# Altium integrated library TI Data Converters Analog to Digital Converter.IntLib: 2197 symbols (part 82 of 168)
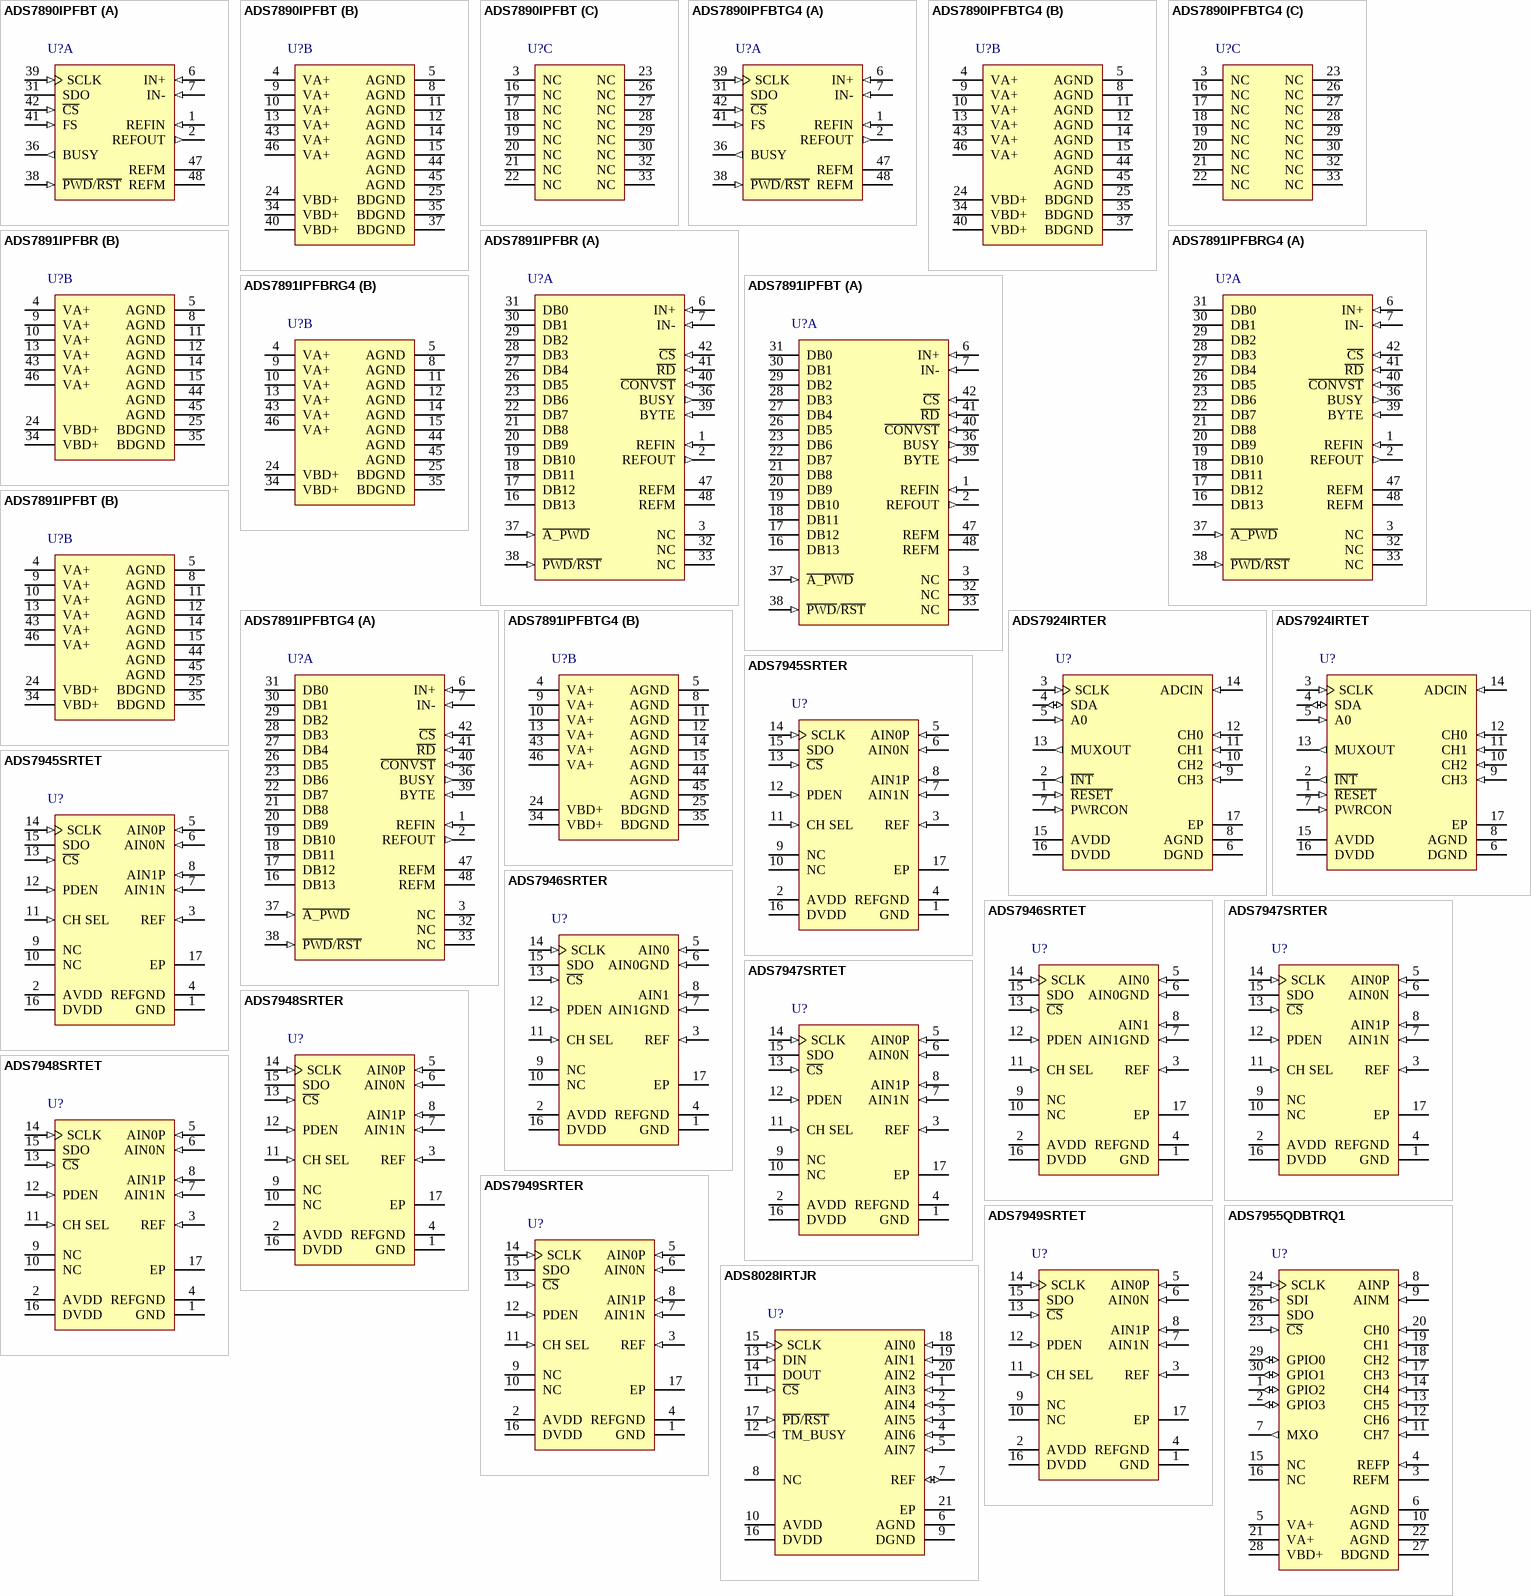
[diagram p207: symbols ADS7890IPFBT to ADS8028IRTJR]

## ADS7948SRTET
designator U?
10-Bit, 2 MSPS, Dual Channel, Pseudo-Differential uPower Serial SAR ADC, -40 to 125 degC, 16-pin QFN (RTE16), Green (RoHS & no Sb/Br); Manufacturer: Texas Instruments; PartNumber: ADS7948SRTET; # Input Channels: 2; Analog Voltage AV/DD(Max)(V): 5.5; Analog Voltage AV/DD(Min)(V): 2.7; Digital Supply(Min)(V): 1.65; INL(Max)(+/-LSB): 0.5; Resolution(Bits): 10; Sample Rate (max)(SPS): 2M; SFDR(dB): 81; SINAD(dB): 61; SubFamily: Precision ADC (<=10MSPS); DatasheetVersion: SLAS708; PackageVersion: 4205254/D, 01/2011; PackageReference: RTE16-1700X1700TP; PackageDescription: 16-Pin Plastic Flat Pack, Body 3 x 3 mm, Pitch 0.5 mm; Supplier 1: Digi-Key; Supplier Part Number 1: ADS7844NG4-ND; Supplier 2: Newark; Supplier Part Number 2: 80K1175; Supplier 3: Mouser; Supplier Part Number 3: 595-ADS7844NG4; Architecture: SAR; Digital Supply(Max)(V): 5.5; Eco-Plan: Green (RoHS & no Sb/Br); Mounting Technology: Surface Mount; Code_JEDEC: MO-220; ComponentLink1Description: Manufacturer URL; ComponentLink1URL: http://www.ti.com/; ComponentLink2Description: Datasheet; ComponentLink2URL: http://www.ti.com/general/docs/lit/getliterature.tsp?genericPartNumber=ADS7948&fileType=pdf; ComponentLink3Description: Package Specification; ComponentLink3URL: http://www.ti.com/litv/pdf/mpqf149c
footprint TI-RTE16-1700X1700TP_V (QFN, 16-Leads, Body 3x3mm, Pitch 0.5mm, Thermal Pad 1.7x1.7mm)
pins: 1 GND (power) "Power supply ground; all analog and digital signals are referred with respect to this pin", 2 AVDD (power) "ADC power supply", 3 REF (in) "ADC positive reference input; decouple this pin with REFGND", 4 REFGND (power) "Reference return; short to analog ground plane", 5 AIN0P (in) "Positive analog input, channel 0", 6 AIN0N (in) "Negative analog input, channel 0. Note that the allowable signal swing on this pin is +/-0.2V; this pin can be grounded.", 7 AIN1N (in) "Negative analog input, channel 1. Note that the allowable signal swing on this pin is +/-0.2V; this pin can be grounded.", 8 AIN1P (in) "Positive analog input, channel 1", 9 NC "Not connected internally, it is recommended to externally short this pin to GND", 10 NC "Not connected internally, it is recommended to externally short this pin to GND", 11 CH SEL (in) "This pin selects the analog input channel. Low = channel 0, high = channel 1. It is recommended to change the channel within a window of one clock; from half a clock after the C\S\ falling edge. This change ensures the (See Datasheet)", 12 PDEN (in) "This pin enables a power-down feature if it is high at the C\S\ rising edge", 13 ~{CS} (in) "Chip select signal; active low", 14 SCLK (in) "Serial SPI clock", 15 SDO (hiz) "Serial data out", 16 DVDD (power) "Digital I/O supply", 17 EP "Exposed Pad"

## ADS7949SRTER
designator U?
8-Bit, 2 MSPS, Dual Channel, Pseudo-Differential, uPower Serial SAR ADC, -40 to 125 degC, 16-pin QFN (RTE16), Green (RoHS & no Sb/Br); Manufacturer: Texas Instruments; PartNumber: ADS7949SRTER; # Input Channels: 2; Analog Voltage AV/DD(Max)(V): 5.5; Analog Voltage AV/DD(Min)(V): 2.7; Digital Supply(Min)(V): 1.65; INL(Max)(+/-LSB): 0.3; Resolution(Bits): 8; Sample Rate (max)(SPS): 2M; SFDR(dB): 81; SINAD(dB): 49; SubFamily: Precision ADC (<=10MSPS); DatasheetVersion: SLAS708; PackageVersion: 4205254/D, 01/2011; PackageReference: RTE16-1700X1700TP; PackageDescription: 16-Pin Plastic Flat Pack, Body 3 x 3 mm, Pitch 0.5 mm; Supplier 1: Digi-Key; Supplier Part Number 1: ADS831E-ND; Supplier 2: Farnell; Supplier Part Number 2: 8381372; Supplier 3: Newark; Supplier Part Number 3: 74C7219; Supplier 4: Mouser; Supplier Part Number 4: 595-ADS831E; Architecture: SAR; Digital Supply(Max)(V): 5.5; Eco-Plan: Green (RoHS & no Sb/Br); Mounting Technology: Surface Mount; Code_JEDEC: MO-220; ComponentLink1Description: Manufacturer URL; ComponentLink1URL: http://www.ti.com/; ComponentLink2Description: Datasheet; ComponentLink2URL: http://www.ti.com/general/docs/lit/getliterature.tsp?genericPartNumber=ADS7949&fileType=pdf; ComponentLink3Description: Package Specification; ComponentLink3URL: http://www.ti.com/litv/pdf/mpqf149c
footprint TI-RTE16-1700X1700TP_V (QFN, 16-Leads, Body 3x3mm, Pitch 0.5mm, Thermal Pad 1.7x1.7mm)
pins: 1 GND (power) "Power supply ground; all analog and digital signals are referred with respect to this pin", 2 AVDD (power) "ADC power supply", 3 REF (in) "ADC positive reference input; decouple this pin with REFGND", 4 REFGND (power) "Reference return; short to analog ground plane", 5 AIN0P (in) "Positive analog input, channel 0", 6 AIN0N (in) "Negative analog input, channel 0", 7 AIN1N (in) "Negative analog input, channel 1", 8 AIN1P (in) "Positive analog input, channel 1", 9 NC "Not connected internally, it is recommended to externally short this pin to GND", 10 NC "Not connected internally, it is recommended to externally short this pin to GND", 11 CH SEL (in) "This pin selects the analog input channel. Low = Channel 0 High = Channel 1 It is recommended to change the channel within a window of one clock; from half a clock after the C\S\ falling edge. This change ensures the (See Datasheet)", 12 PDEN (in) "This pin enables a power-down feature if it is high at the C\S\ rising edge", 13 ~{CS} (in) "Chip select signal; active low", 14 SCLK (in) "Serial SPI clock", 15 SDO (hiz) "Serial data out", 16 DVDD (power) "Digital I/O supply", 17 EP

## ADS7949SRTET
designator U?
8-Bit, 2 MSPS, Dual Channel, Pseudo-Differential, uPower Serial SAR ADC, -40 to 125 degC, 16-pin QFN (RTE16), Green (RoHS & no Sb/Br); Manufacturer: Texas Instruments; PartNumber: ADS7949SRTET; # Input Channels: 2; Analog Voltage AV/DD(Max)(V): 5.5; Analog Voltage AV/DD(Min)(V): 2.7; Digital Supply(Min)(V): 1.65; INL(Max)(+/-LSB): 0.3; Resolution(Bits): 8; Sample Rate (max)(SPS): 2M; SFDR(dB): 81; SINAD(dB): 49; SubFamily: Precision ADC (<=10MSPS); DatasheetVersion: SLAS708; PackageVersion: 4205254/D, 01/2011; PackageReference: RTE16-1700X1700TP; PackageDescription: 16-Pin Plastic Flat Pack, Body 3 x 3 mm, Pitch 0.5 mm; Supplier 1: Digi-Key; Supplier Part Number 1: ADS831ETR-ND; Supplier 2: Newark; Supplier Part Number 2: 74C7220; Supplier 3: Mouser; Supplier Part Number 3: 595-ADS831E/2K5; Architecture: SAR; Digital Supply(Max)(V): 5.5; Eco-Plan: Green (RoHS & no Sb/Br); Mounting Technology: Surface Mount; Code_JEDEC: MO-220; ComponentLink1Description: Manufacturer URL; ComponentLink1URL: http://www.ti.com/; ComponentLink2Description: Datasheet; ComponentLink2URL: http://www.ti.com/general/docs/lit/getliterature.tsp?genericPartNumber=ADS7949&fileType=pdf; ComponentLink3Description: Package Specification; ComponentLink3URL: http://www.ti.com/litv/pdf/mpqf149c
footprint TI-RTE16-1700X1700TP_V (QFN, 16-Leads, Body 3x3mm, Pitch 0.5mm, Thermal Pad 1.7x1.7mm)
pins: 1 GND (power) "Power supply ground; all analog and digital signals are referred with respect to this pin", 2 AVDD (power) "ADC power supply", 3 REF (in) "ADC positive reference input; decouple this pin with REFGND", 4 REFGND (power) "Reference return; short to analog ground plane", 5 AIN0P (in) "Positive analog input, channel 0", 6 AIN0N (in) "Negative analog input, channel 0", 7 AIN1N (in) "Negative analog input, channel 1", 8 AIN1P (in) "Positive analog input, channel 1", 9 NC "Not connected internally, it is recommended to externally short this pin to GND", 10 NC "Not connected internally, it is recommended to externally short this pin to GND", 11 CH SEL (in) "This pin selects the analog input channel. Low = Channel 0 High = Channel 1 It is recommended to change the channel within a window of one clock; from half a clock after the C\S\ falling edge. This change ensures the (See Datasheet)", 12 PDEN (in) "This pin enables a power-down feature if it is high at the C\S\ rising edge", 13 ~{CS} (in) "Chip select signal; active low", 14 SCLK (in) "Serial SPI clock", 15 SDO (hiz) "Serial data out", 16 DVDD (power) "Digital I/O supply", 17 EP

## ADS7955QDBTRQ1
designator U?
Automotive Catalog 10-Bit, 1 MSPS, 8 Channel, Single Ended, Micro Power, Serial Interface, SAR ADC, -40 to 125 degC, 30-pin SOP (DBT30), Green (RoHS & no Sb/Br); Manufacturer: Texas Instruments; PartNumber: ADS7955QDBTRQ1; # Input Channels: 8; Analog Voltage AV/DD(Max)(V): 5.25; Analog Voltage AV/DD(Min)(V): 2.7; Digital Supply(Min)(V): 1.7; INL(Max)(+/-LSB): 0.5; Interface: Serial SPI; Resolution(Bits): 10; Sample Rate (max)(SPS): 1M; SFDR(dB): 82; SubFamily: Precision ADC (<=10MSPS); DatasheetVersion: SLAS814; PackageVersion: 4073252-5/I, 03/2011; PackageReference: DBT30; PackageDescription: 30-Pin Plastic Small Outline, Body 7.80 x 4.40 mm, Pitch 0.50 mm; Supplier 1: Digi-Key; Supplier Part Number 1: ADS831E/2K5G4-ND; Supplier 2: Mouser; Supplier Part Number 2: 595-ADS831E/2K5G4; Architecture: SAR; Digital Supply(Max)(V): 5.25; Eco-Plan: Green (RoHS & no Sb/Br); Mounting Technology: Surface Mount; Code_JEDEC: MO-153; ComponentLink1Description: Manufacturer URL; ComponentLink1URL: http://www.ti.com/; ComponentLink2Description: Datasheet; ComponentLink2URL: http://www.ti.com/general/docs/lit/getliterature.tsp?genericPartNumber=ADS7955-Q1&fileType=pdf; ComponentLink3Description: Package Specification; ComponentLink3URL: http://www.ti.com/lit/ml/mpds019h/mpds019h.pdf
footprint TI-DBT30_N (SOP, 30-Leads, Body 7.8x4.4mm, Pitch 0.5mm, IPC Medium Density)
footprint TI-DBT30_L (SOP, 30-Leads, Body 7.8x4.4mm, Pitch 0.5mm, IPC High Density)
footprint TI-DBT30_M (SOP, 30-Leads, Body 7.8x4.4mm, Pitch 0.5mm, IPC Low Density)
pins: 1 GPIO2 (io), 2 GPIO3 (io), 3 REFM (power) "Reference ground", 4 REFP (in) "Reference input", 5 VA+ (power) "Analog power supply", 6 AGND (power) "Analog ground", 7 MXO (out) "Multiplexer output", 8 AINP (in) "Signal input to ADC", 9 AINM (in) "ADC input ground", 10 AGND (power) "Analog ground", 11 CH7 (in) "Analog channels for multiplexer", 12 CH6 (in) "Analog channels for multiplexer", 13 CH5 (in) "Analog channels for multiplexer", 14 CH4 (in) "Analog channels for multiplexer", 15 NC "Pins internally not connected, do not float these pins", 16 NC "Pins internally not connected, do not float these pins", 17 CH3 (in) "Analog channels for multiplexer", 18 CH2 (in) "Analog channels for multiplexer", 19 CH1 (in) "Analog channels for multiplexer", 20 CH0 (in) "Analog channels for multiplexer", 21 VA+ (power) "Analog power supply", 22 AGND (power) "Analog ground", 23 ~{CS} (in) "Chip select input", 24 SCLK (in) "Serial clock input", 25 SDI (in) "Serial data input", 26 SDO (hiz) "Serial data output", 27 BDGND (power) "Digital ground", 28 VBD+ (power) "Digital I/O supply", 29 GPIO0 (io), 30 GPIO1 (io)

## ADS8028IRTJR
designator U?
12-Bit, 8-channel, 1 MSPS, SAR ADC with Internal Reference and Internal Temperature Sensor, -40 to 125 degC, 20-pin QFN (RTJ20), Green (RoHS & no Sb/Br); Manufacturer: Texas Instruments; PartNumber: ADS8028IRTJR; # Input Channels: 8; Analog Voltage AV/DD(Max)(V): 5.25; Analog Voltage AV/DD(Min)(V): 2.7; Digital Supply(Min)(V): 1.65; INL(Max)(+/-LSB): 1; Interface: Serial SPI; Resolution(Bits): 12; Sample Rate (max)(SPS): 1M; SFDR(dB): 84; SINAD(dB): 71; SNR(dB): 72; SubFamily: Precision ADC (<=10MSPS); DatasheetVersion: SBAS549B; PackageVersion: 4205505/F, 07/2011; PackageReference: RTJ20-2600X2600TP; PackageDescription: 20-Pin Plastic Flat Pack, Body 4 X 4 mm, Pitch 0.5 mm; Supplier 1: Digi-Key; Supplier Part Number 1: ADS831EG4-ND; Supplier 2: Farnell; Supplier Part Number 2: 1214357; Supplier 3: Newark; Supplier Part Number 3: 96K6249; Supplier 4: Mouser; Supplier Part Number 4: 595-ADS831EG4; Architecture: SAR; Digital Supply(Max)(V): 5.25; Eco-Plan: Green (RoHS & no Sb/Br); Mounting Technology: Surface Mount; ComponentLink1Description: Manufacturer URL; ComponentLink1URL: http://www.ti.com/; ComponentLink2Description: Datasheet; ComponentLink2URL: http://www.ti.com/general/docs/lit/getliterature.tsp?genericPartNumber=ADS8028&fileType=pdf; ComponentLink3Description: Package Specification; ComponentLink3URL: http://www.ti.com/lit/ml/mpqf156e/mpqf156e.pdf
footprint TI-RTJ20-2600X2600TP_V (QFN, 20-Leads, Body 4x4mm, Pitch 0.5mm, Thermal Pad 2.6 x 2.6 mm)
pins: 1 AIN3 (in) "Analog input channel 3", 2 AIN4 (in) "Analog input channel 4", 3 AIN5 (in) "Analog input channel 5", 4 AIN6 (in) "Analog input channel 6", 5 AIN7 (in) "Analog input channel 7", 6 AGND (power) "Analog ground", 7 REF (io) "ADC internal reference output or ADC external reference input", 8 NC "This pin has no internal connection. Any passive component connected to this pin does not affect device functionality.", 9 DGND (power) "Digital ground", 10 AVDD (power) "ADC operation supply voltage", 11 ~{CS} (in) "Chip select; active low logic input", 12 TM_BUSY (out) "Busy output; this pin transitions high and remains high during conversion for temperature sensor input", 13 DIN (in) "SPI data input", 14 DOUT (hiz) "SPI data output", 15 SCLK (in) "SPI clock", 16 DVDD (power) "ADC interface supply voltage", 17 ~{PD}/~{RST} (in) "Dual function pin for power-down and reset operation; active low logic input", 18 AIN0 (in) "Analog input channel 0", 19 AIN1 (in) "Analog input channel 1", 20 AIN2 (in) "Analog input channel 2", 21 EP (power) "Exposed thermal pad; this pin should be soldered to the PCB ground for proper functionality and heat dissipation"

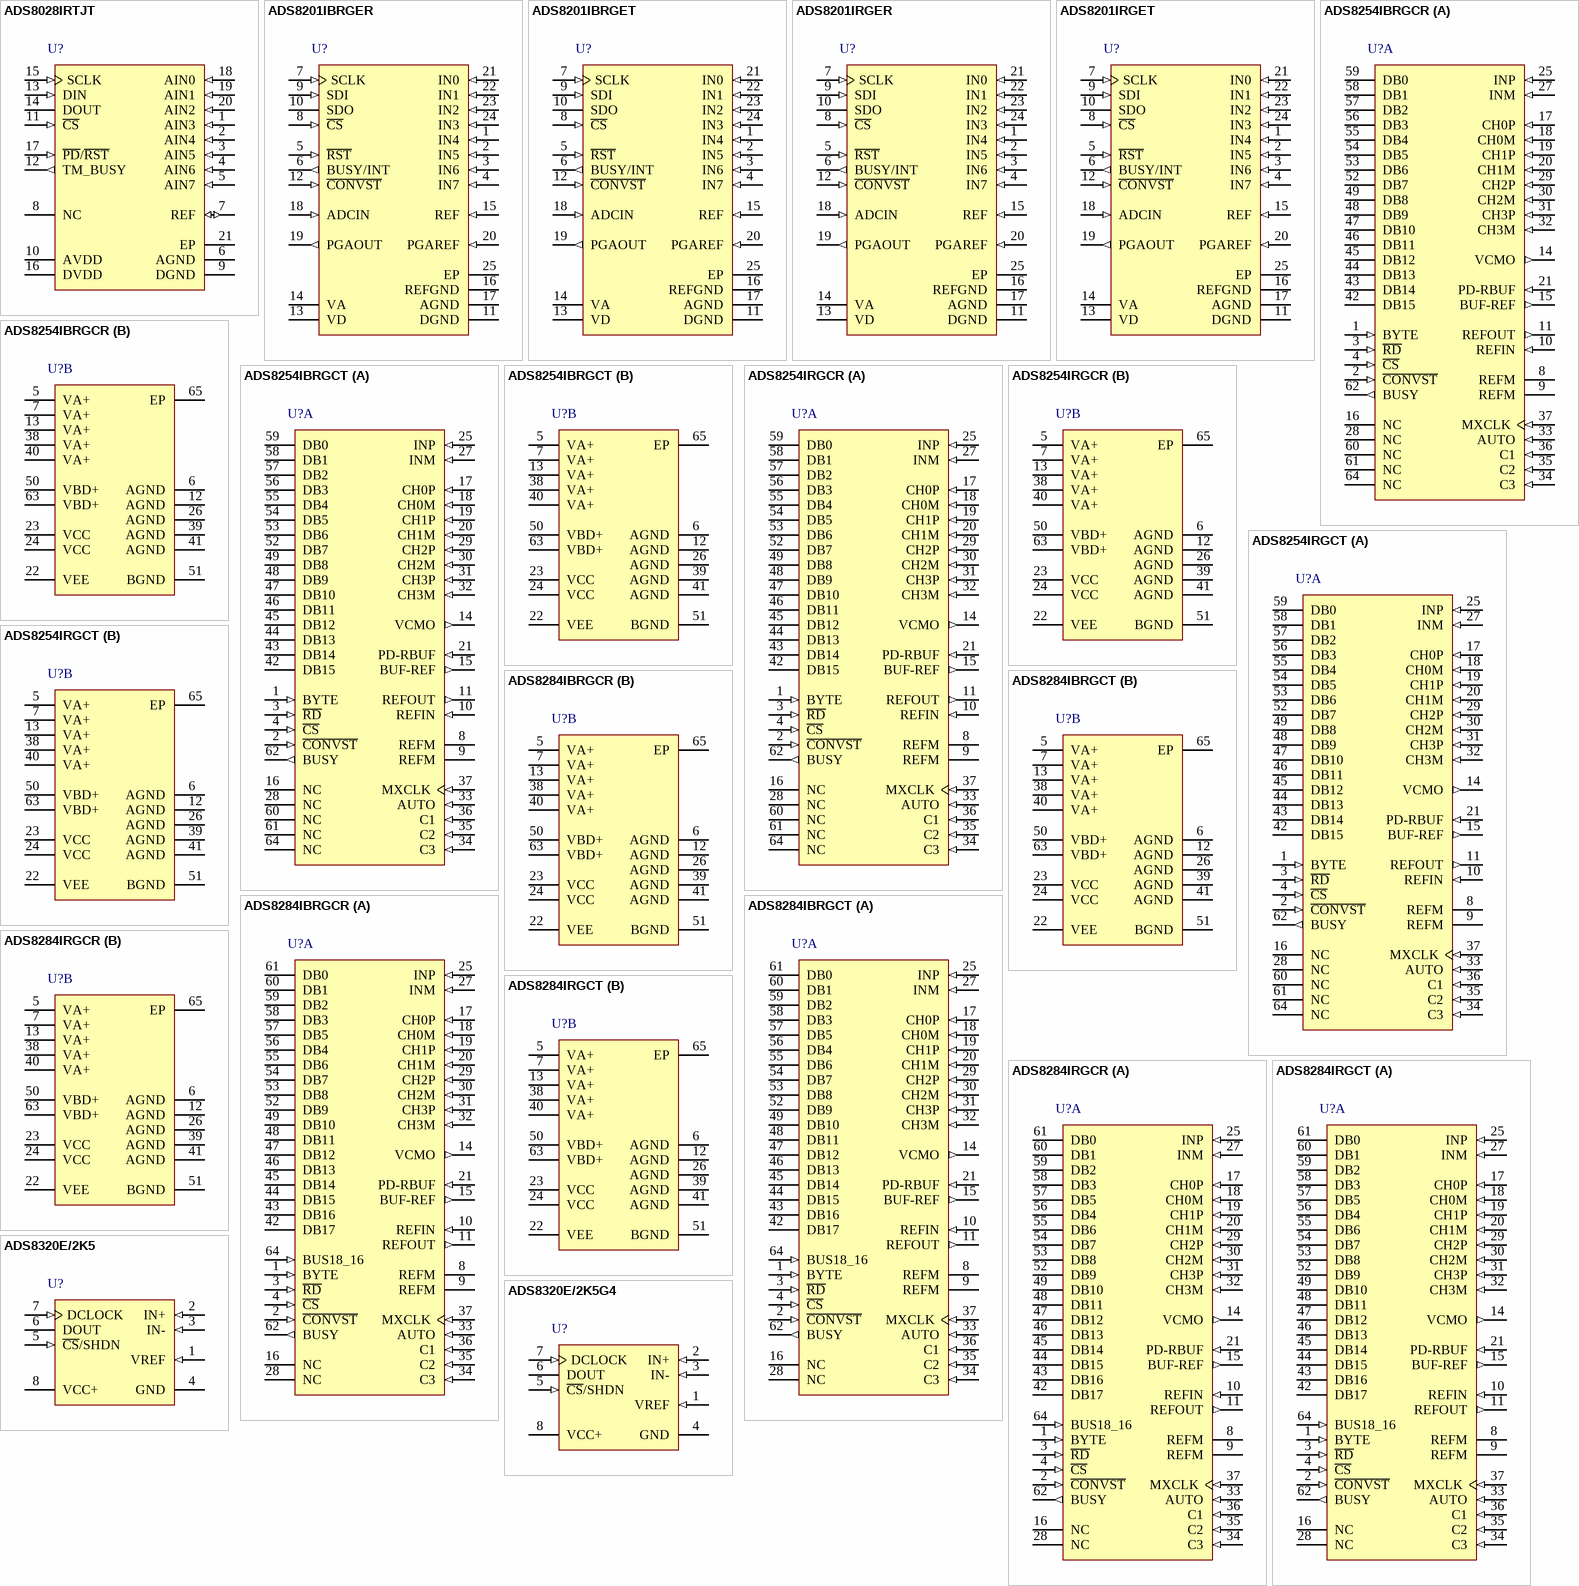
[diagram p72: symbols ADS8028IRTJT to ADS8320E/2K5G4]

## ADS8028IRTJT
designator U?
12-Bit, 8-channel, 1 MSPS, SAR ADC with Internal Reference and Internal Temperature Sensor, -40 to 125 degC, 20-pin QFN (RTJ20), Green (RoHS & no Sb/Br); Manufacturer: Texas Instruments; PartNumber: ADS8028IRTJT; # Input Channels: 8; Analog Voltage AV/DD(Max)(V): 5.25; Analog Voltage AV/DD(Min)(V): 2.7; Digital Supply(Min)(V): 1.65; INL(Max)(+/-LSB): 1; Interface: Serial SPI; Resolution(Bits): 12; Sample Rate (max)(SPS): 1M; SFDR(dB): 84; SINAD(dB): 71; SNR(dB): 72; SubFamily: Precision ADC (<=10MSPS); DatasheetVersion: SBAS549B; PackageVersion: 4205505/F, 07/2011; PackageReference: RTJ20-2600X2600TP; PackageDescription: 20-Pin Plastic Flat Pack, Body 4 X 4 mm, Pitch 0.5 mm; Supplier 1: Digi-Key; Supplier Part Number 1: ADS830E-ND; Supplier 2: Farnell; Supplier Part Number 2: 1534763; Supplier 3: Farnell; Supplier Part Number 3: 1754732; Supplier 4: Newark; Supplier Part Number 4: 88K1034; Supplier 5: Mouser; Supplier Part Number 5: 595-ADS830E; Architecture: SAR; Digital Supply(Max)(V): 5.25; Eco-Plan: Green (RoHS & no Sb/Br); Mounting Technology: Surface Mount; ComponentLink1Description: Manufacturer URL; ComponentLink1URL: http://www.ti.com/; ComponentLink2Description: Datasheet; ComponentLink2URL: http://www.ti.com/general/docs/lit/getliterature.tsp?genericPartNumber=ADS8028&fileType=pdf; ComponentLink3Description: Package Specification; ComponentLink3URL: http://www.ti.com/lit/ml/mpqf156e/mpqf156e.pdf
footprint TI-RTJ20-2600X2600TP_V (QFN, 20-Leads, Body 4x4mm, Pitch 0.5mm, Thermal Pad 2.6 x 2.6 mm)
pins: 1 AIN3 (in) "Analog input channel 3", 2 AIN4 (in) "Analog input channel 4", 3 AIN5 (in) "Analog input channel 5", 4 AIN6 (in) "Analog input channel 6", 5 AIN7 (in) "Analog input channel 7", 6 AGND (power) "Analog ground", 7 REF (io) "ADC internal reference output or ADC external reference input", 8 NC "This pin has no internal connection. Any passive component connected to this pin does not affect device functionality.", 9 DGND (power) "Digital ground", 10 AVDD (power) "ADC operation supply voltage", 11 ~{CS} (in) "Chip select; active low logic input", 12 TM_BUSY (out) "Busy output; this pin transitions high and remains high during conversion for temperature sensor input", 13 DIN (in) "SPI data input", 14 DOUT (hiz) "SPI data output", 15 SCLK (in) "SPI clock", 16 DVDD (power) "ADC interface supply voltage", 17 ~{PD}/~{RST} (in) "Dual function pin for power-down and reset operation; active low logic input", 18 AIN0 (in) "Analog input channel 0", 19 AIN1 (in) "Analog input channel 1", 20 AIN2 (in) "Analog input channel 2", 21 EP (power) "Exposed thermal pad; this pin should be soldered to the PCB ground for proper functionality and heat dissipation"

## ADS8201IBRGER
designator U?
2.2 to 5.5 V, Low-Power, 12-Bit, 100 kSPS, 8-Channel DAS with PGA and SPI(TM), -40 to 85 degC, 24-pin QFN (RGE24); Manufacturer: Texas Instruments; PartNumber: ADS8201IBRGER; # Input Channels: 8; Analog Voltage AV/DD(Max)(V): 5.5; Analog Voltage AV/DD(Min)(V): 2.2; Architecture: SAR; INL(Max)(+/-LSB): 1.5; Interface: Serial SPI; Resolution(Bits): 12; Sample Rate (max)(SPS): 100k; SubFamily: Precision ADC (<=10MSPS); DatasheetVersion: SLAS534B; PackageVersion: 4204104/G, 07/2011; PackageReference: RGE24-2450X2450TP; PackageDescription: 24-Pin Plastic Flat Pack, Body 4 x 4 mm, Pitch 0.5 mm; Supplier 1: Digi-Key; Supplier Part Number 1: ADS830ETR-ND; Supplier 2: Newark; Supplier Part Number 2: 74C7218; Supplier 3: Mouser; Supplier Part Number 3: 595-ADS830E/2K5; Digital Supply(Max)(V): 5.5; Digital Supply(Min)(V): 2.2; Mounting Technology: Surface Mount; Code_JEDEC: MO-220; ComponentLink1Description: Manufacturer URL; ComponentLink1URL: http://www.ti.com/; ComponentLink2Description: Datasheet; ComponentLink2URL: http://www.ti.com/general/docs/lit/getliterature.tsp?genericPartNumber=ADS8201&fileType=pdf; ComponentLink3Description: Package Specification; ComponentLink3URL: http://www.ti.com/litv/pdf/mpqf124f
footprint TI-RGE24-2450X2450TP_V (QFN, 24-Leads, Body 4x4mm, Pitch 0.5mm, Thermal Pad 2.45x2.45mm)
pins: 1 IN4 (in) "Input channel single-ended 4 or differential pair 3", 2 IN5 (in) "Input channel single-ended 5 or differential pair 3", 3 IN6 (in) "Input channel single-ended 6 or differential pair 4", 4 IN7 (in) "Input channel single-ended 7 or differential pair 4", 5 ~{RST} (in) "External hardware reset", 6 BUSY/INT (out) "Status output. If programmed as the BUSY pin, this pin is low (default) when a conversion is in progress. If programmed as an interrupt (INT), this pin is low for a preprogrammed duration after the end of a conversion and (See Datasheet)", 7 SCLK (in) "Serial interface clock", 8 ~{CS} (in) "Chip select input for SPI interface slave select (S\S\)", 9 SDI (in) "Serial data in", 10 SDO (hiz) "Serial data out", 11 DGND (power) "Interface ground", 12 ~{CONVST} (in) "Starts conversion", 13 VD (power) "Interface supply", 14 VA (power) "Analog supply (+2.2VDC to +5.5VDC)", 15 REF (in) "External reference input", 16 REFGND (power) "Reference ground", 17 AGND (power) "Analog ground", 18 ADCIN (in) "ADC input", 19 PGAOUT (out) "Mux output. Output can be further filtered before sending to ADCIN.", 20 PGAREF (in) "PGA Reference", 21 IN0 (in) "Analog channel single-ended 0 or differential pair 0", 22 IN1 (in) "Analog channel single-ended 1 or differential pair 0", 23 IN2 (in) "Analog channel single-ended 2 or differential pair 1", 24 IN3 (in) "Analog channel single-ended 3 or differential pair 1", 25 EP (power) "Thermal pad should be tied to AGND."

## ADS8201IBRGET
designator U?
2.2 to 5.5 V, Low-Power, 12-Bit, 100 kSPS, 8-Channel DAS with PGA and SPI(TM), -40 to 85 degC, 24-pin QFN (RGE24); Manufacturer: Texas Instruments; PartNumber: ADS8201IBRGET; # Input Channels: 8; Analog Voltage AV/DD(Max)(V): 5.5; Analog Voltage AV/DD(Min)(V): 2.2; Architecture: SAR; INL(Max)(+/-LSB): 1.5; Interface: Serial SPI; Resolution(Bits): 12; Sample Rate (max)(SPS): 100k; SubFamily: Precision ADC (<=10MSPS); DatasheetVersion: SLAS534B; PackageVersion: 4204104/G, 07/2011; PackageReference: RGE24-2450X2450TP; PackageDescription: 24-Pin Plastic Flat Pack, Body 4 x 4 mm, Pitch 0.5 mm; Supplier 1: Digi-Key; Supplier Part Number 1: ADS830E/2K5G4-ND; Supplier 2: Mouser; Supplier Part Number 2: 595-ADS830E/2K5G4; Digital Supply(Max)(V): 5.5; Digital Supply(Min)(V): 2.2; Mounting Technology: Surface Mount; Code_JEDEC: MO-220; ComponentLink1Description: Manufacturer URL; ComponentLink1URL: http://www.ti.com/; ComponentLink2Description: Datasheet; ComponentLink2URL: http://www.ti.com/general/docs/lit/getliterature.tsp?genericPartNumber=ADS8201&fileType=pdf; ComponentLink3Description: Package Specification; ComponentLink3URL: http://www.ti.com/litv/pdf/mpqf124f
footprint TI-RGE24-2450X2450TP_V (QFN, 24-Leads, Body 4x4mm, Pitch 0.5mm, Thermal Pad 2.45x2.45mm)
pins: 1 IN4 (in) "Input channel single-ended 4 or differential pair 3", 2 IN5 (in) "Input channel single-ended 5 or differential pair 3", 3 IN6 (in) "Input channel single-ended 6 or differential pair 4", 4 IN7 (in) "Input channel single-ended 7 or differential pair 4", 5 ~{RST} (in) "External hardware reset", 6 BUSY/INT (out) "Status output. If programmed as the BUSY pin, this pin is low (default) when a conversion is in progress. If programmed as an interrupt (INT), this pin is low for a preprogrammed duration after the end of a conversion and (See Datasheet)", 7 SCLK (in) "Serial interface clock", 8 ~{CS} (in) "Chip select input for SPI interface slave select (S\S\)", 9 SDI (in) "Serial data in", 10 SDO (hiz) "Serial data out", 11 DGND (power) "Interface ground", 12 ~{CONVST} (in) "Starts conversion", 13 VD (power) "Interface supply", 14 VA (power) "Analog supply (+2.2VDC to +5.5VDC)", 15 REF (in) "External reference input", 16 REFGND (power) "Reference ground", 17 AGND (power) "Analog ground", 18 ADCIN (in) "ADC input", 19 PGAOUT (out) "Mux output. Output can be further filtered before sending to ADCIN.", 20 PGAREF (in) "PGA Reference", 21 IN0 (in) "Analog channel single-ended 0 or differential pair 0", 22 IN1 (in) "Analog channel single-ended 1 or differential pair 0", 23 IN2 (in) "Analog channel single-ended 2 or differential pair 1", 24 IN3 (in) "Analog channel single-ended 3 or differential pair 1", 25 EP (power) "Thermal pad should be tied to AGND."

## ADS8201IRGER
designator U?
2.2 to 5.5 V, Low-Power, 12-Bit, 100 kSPS, 8-Channel DAS with PGA and SPI(TM), -40 to 85 degC, 24-pin QFN (RGE24), Green (RoHS & no Sb/Br); Manufacturer: Texas Instruments; PartNumber: ADS8201IRGER; # Input Channels: 8; Analog Voltage AV/DD(Max)(V): 5.5; Analog Voltage AV/DD(Min)(V): 2.2; Architecture: SAR; INL(Max)(+/-LSB): 1.5; Interface: Serial SPI; Resolution(Bits): 12; Sample Rate (max)(SPS): 100k; SubFamily: Precision ADC (<=10MSPS); DatasheetVersion: SLAS534B; PackageVersion: 4204104/G, 07/2011; PackageReference: RGE24-2450X2450TP; PackageDescription: 24-Pin Plastic Flat Pack, Body 4 x 4 mm, Pitch 0.5 mm; Supplier 1: Digi-Key; Supplier Part Number 1: ADS830EG4-ND; Supplier 2: Newark; Supplier Part Number 2: 24K4054; Supplier 3: Mouser; Supplier Part Number 3: 595-ADS830EG4; Digital Supply(Max)(V): 5.5; Digital Supply(Min)(V): 2.2; Eco-Plan: Green (RoHS & no Sb/Br); Mounting Technology: Surface Mount; Code_JEDEC: MO-220; ComponentLink1Description: Manufacturer URL; ComponentLink1URL: http://www.ti.com/; ComponentLink2Description: Datasheet; ComponentLink2URL: http://www.ti.com/general/docs/lit/getliterature.tsp?genericPartNumber=ADS8201&fileType=pdf; ComponentLink3Description: Package Specification; ComponentLink3URL: http://www.ti.com/litv/pdf/mpqf124f
footprint TI-RGE24-2450X2450TP_V (QFN, 24-Leads, Body 4x4mm, Pitch 0.5mm, Thermal Pad 2.45x2.45mm)
pins: 1 IN4 (in) "Input channel single-ended 4 or differential pair 3", 2 IN5 (in) "Input channel single-ended 5 or differential pair 3", 3 IN6 (in) "Input channel single-ended 6 or differential pair 4", 4 IN7 (in) "Input channel single-ended 7 or differential pair 4", 5 ~{RST} (in) "External hardware reset", 6 BUSY/INT (out) "Status output. If programmed as the BUSY pin, this pin is low (default) when a conversion is in progress. If programmed as an interrupt (INT), this pin is low for a preprogrammed duration after the end of a conversion and (See Datasheet)", 7 SCLK (in) "Serial interface clock", 8 ~{CS} (in) "Chip select input for SPI interface slave select (S\S\)", 9 SDI (in) "Serial data in", 10 SDO (hiz) "Serial data out", 11 DGND (power) "Interface ground", 12 ~{CONVST} (in) "Starts conversion", 13 VD (power) "Interface supply", 14 VA (power) "Analog supply (+2.2VDC to +5.5VDC)", 15 REF (in) "External reference input", 16 REFGND (power) "Reference ground", 17 AGND (power) "Analog ground", 18 ADCIN (in) "ADC input", 19 PGAOUT (out) "Mux output. Output can be further filtered before sending to ADCIN.", 20 PGAREF (in) "PGA Reference", 21 IN0 (in) "Analog channel single-ended 0 or differential pair 0", 22 IN1 (in) "Analog channel single-ended 1 or differential pair 0", 23 IN2 (in) "Analog channel single-ended 2 or differential pair 1", 24 IN3 (in) "Analog channel single-ended 3 or differential pair 1", 25 EP (power) "Thermal pad should be tied to AGND."

## ADS8201IRGET
designator U?
2.2 to 5.5 V, Low-Power, 12-Bit, 100 kSPS, 8-Channel DAS with PGA and SPI(TM), -40 to 85 degC, 24-pin QFN (RGE24), Green (RoHS & no Sb/Br); Manufacturer: Texas Instruments; PartNumber: ADS8201IRGET; # Input Channels: 8; Analog Voltage AV/DD(Max)(V): 5.5; Analog Voltage AV/DD(Min)(V): 2.2; Architecture: SAR; INL(Max)(+/-LSB): 1.5; Interface: Serial SPI; Resolution(Bits): 12; Sample Rate (max)(SPS): 100k; SubFamily: Precision ADC (<=10MSPS); DatasheetVersion: SLAS534B; PackageVersion: 4204104/G, 07/2011; PackageReference: RGE24-2450X2450TP; PackageDescription: 24-Pin Plastic Flat Pack, Body 4 x 4 mm, Pitch 0.5 mm; Supplier 1: Digi-Key; Supplier Part Number 1: ADS807E-ND; Supplier 2: Newark; Supplier Part Number 2: 74K3637; Supplier 3: Mouser; Supplier Part Number 3: 595-ADS807E; Digital Supply(Max)(V): 5.5; Digital Supply(Min)(V): 2.2; Eco-Plan: Green (RoHS & no Sb/Br); Mounting Technology: Surface Mount; Code_JEDEC: MO-220; ComponentLink1Description: Manufacturer URL; ComponentLink1URL: http://www.ti.com/; ComponentLink2Description: Datasheet; ComponentLink2URL: http://www.ti.com/general/docs/lit/getliterature.tsp?genericPartNumber=ADS8201&fileType=pdf; ComponentLink3Description: Package Specification; ComponentLink3URL: http://www.ti.com/litv/pdf/mpqf124f
footprint TI-RGE24-2450X2450TP_V (QFN, 24-Leads, Body 4x4mm, Pitch 0.5mm, Thermal Pad 2.45x2.45mm)
pins: 1 IN4 (in) "Input channel single-ended 4 or differential pair 3", 2 IN5 (in) "Input channel single-ended 5 or differential pair 3", 3 IN6 (in) "Input channel single-ended 6 or differential pair 4", 4 IN7 (in) "Input channel single-ended 7 or differential pair 4", 5 ~{RST} (in) "External hardware reset", 6 BUSY/INT (out) "Status output. If programmed as the BUSY pin, this pin is low (default) when a conversion is in progress. If programmed as an interrupt (INT), this pin is low for a preprogrammed duration after the end of a conversion and (See Datasheet)", 7 SCLK (in) "Serial interface clock", 8 ~{CS} (in) "Chip select input for SPI interface slave select (S\S\)", 9 SDI (in) "Serial data in", 10 SDO (hiz) "Serial data out", 11 DGND (power) "Interface ground", 12 ~{CONVST} (in) "Starts conversion", 13 VD (power) "Interface supply", 14 VA (power) "Analog supply (+2.2VDC to +5.5VDC)", 15 REF (in) "External reference input", 16 REFGND (power) "Reference ground", 17 AGND (power) "Analog ground", 18 ADCIN (in) "ADC input", 19 PGAOUT (out) "Mux output. Output can be further filtered before sending to ADCIN.", 20 PGAREF (in) "PGA Reference", 21 IN0 (in) "Analog channel single-ended 0 or differential pair 0", 22 IN1 (in) "Analog channel single-ended 1 or differential pair 0", 23 IN2 (in) "Analog channel single-ended 2 or differential pair 1", 24 IN3 (in) "Analog channel single-ended 3 or differential pair 1", 25 EP (power) "Thermal pad should be tied to AGND."

## ADS8254IBRGCR
designator U?
16-Bit, 4 Channel Differential Complete Acquisition Solution (ADC, REF, and Input Buffer), -40 to 85 degC, 64-pin QFN (RGC64), Green (RoHS & no Sb/Br); Manufacturer: Texas Instruments; PartNumber: ADS8254IBRGCR; # Input Channels: 4; Analog Voltage AV/DD(Max)(V): 5.25; Analog Voltage AV/DD(Min)(V): 4.75; Architecture: SAR; Digital Supply(Min)(V): 2.7; INL(Max)(+/-LSB): 0.75; Interface: Parallel CMOS; Resolution(Bits): 16; Sample Rate (max)(SPS): 1M; SFDR(dB): 120; SINAD(dB): 95.2; SNR(dB): 95.4; SubFamily: Precision ADC (<=10MSPS); DatasheetVersion: SLAS643; PackageVersion: 4204106/F, 11/2011; PackageReference: RGC64-7250X7250TP; PackageDescription: 64-Pin Plastic Quad Flatpack No-Lead, Body 9 x 9 mm, Pitch 0.5 mm; Supplier 1: Digi-Key; Supplier Part Number 1: ADS807E/1K-ND; Supplier 2: Mouser; Supplier Part Number 2: 595-ADS807E/1K; Digital Supply(Max)(V): 5.25; Eco-Plan: Green (RoHS & no Sb/Br); Mounting Technology: Surface Mount; ComponentLink1Description: Manufacturer URL; ComponentLink1URL: http://www.ti.com/; ComponentLink2Description: Datasheet; ComponentLink2URL: http://www.ti.com/general/docs/lit/getliterature.tsp?genericPartNumber=ADS8254&fileType=pdf; ComponentLink3Description: Package Specification; ComponentLink3URL: http://www.ti.com/litv/pdf/mpqf125e
footprint TI-RGC64-7250X7250TP_V (QFN, 64-Leads, Body 9x9mm, Pitch 0.5mm, Thermal Pad 7.25x7.25mm, TI Recommended)
part A pins: 1 BYTE (in) "Byte Select Input. Used for 8-bit bus reading. Refer to ADC DATA BUS description above.", 2 ~{CONVST} (in) "Convert start. This input is active low and can act independent of the C\S\ input.", 3 ~{RD} (in) "Synchronization pulse for the parallel output.", 4 ~{CS} (in) "Chip select.", 8 REFM (power) "Reference ground.", 9 REFM (power) "Reference ground.", 10 REFIN (in) "Reference Input. Add 0.1-uF decoupling capacitor between REFIN and REFM.", 11 REFOUT (out) "Reference Output. Add 1-uF capacitor between the REFOUT pin and REFM pin when internal reference is used.", 14 VCMO (out) "This pin outputs REFIN/2 and can be used to set common-mode voltage of differential analog inputs.", 15 BUF-REF (out) "Buffered reference output. Useful to level shift bipolar signals using external resistors.", 16 NC "No connection.", 17 CH0P (in) "Non-inverting analog input for differential multiplexer channel number 0. Device performance is optimized for 50-ohm source impedance at this input.", 18 CH0M (in) "Inverting analog input for differential multiplexer channel number 0. Device performance is optimized for 50-ohm source impedance at this input.", 19 CH1P (in) "Non-inverting analog input for differential multiplexer channel number 1. Device performance is optimized for 50-ohm source impedance at this input.", 20 CH1M (in) "Inverting analog input for differential multiplexer channel number 1. Device performance is optimized for 50-ohm source impedance at this input.", 21 PD-RBUF (in) "High on this pin powers down the reference buffer (BUF-REF).", 25 INP (in) "ADC Non inverting input., connect 1-nF capacitor across INP and INM", 27 INM (in) "ADC Inverting input, connect 1-nF capacitor across INP and INM", 28 NC "No connection.", 29 CH2P (in) "Non-inverting analog input for differential multiplexer channel number 2. Device performance is optimized for 50-ohm source impedance at this input.", 30 CH2M (in) "Inverting analog input for differential multiplexer channel number 2. Device performance is optimized for 50-ohm source impedance at this input.", 31 CH3P (in) "Non-inverting analog input for differential multiplexer channel number 3. Device performance is optimized for 50 ohm source impedance at this input.", 32 CH3M (in) "Inverting analog input for differential multiplexer channel number 3. Device performance is optimized for 50-ohm source impedance at this input.", 33 AUTO (in) "High level on this pin selects auto mode for multiplexer scanning. Low level selects manual mode of multiplexer scanning", 34 C3 (in) "In auto mode (AUTO = 1) multiplexer channel selection is reset to CH0 on rising edge of MXCLK while C3 = 1. The pin is do not care in manual mode.", 35 C2 (in) "Acts as multiplexer address bit when AUTO = 0 (manual mode). In auto mode (AUTO = 1) C2 and C1 select the last multiplexer channel (channel count) in the auto scan sequence.", 36 C1 (in) "Acts as multiplexer address LSB when AUTO = 0 (manual mode). In auto mode (AUTO = 1) C2 and C1 select the last multiplexer channel (channel count) in the auto scan sequence.", 37 MXCLK (in) "Multiplexer channel is selected on rising edge of MXCLK irrespective of whether it is auto or manual mode. Device BUSY output can be connected to MXCLK so that device selects next channel at the end of every sample.", 42 DB15 (hiz), 43 DB14 (hiz), 44 DB13 (hiz), 45 DB12 (hiz), 46 DB11 (hiz), 47 DB10 (hiz), 48 DB9 (hiz), 49 DB8 (hiz), 52 DB7 (hiz), 53 DB6 (hiz), 54 DB5 (hiz), 55 DB4 (hiz), 56 DB3 (hiz), 57 DB2 (hiz), 58 DB1 (hiz), 59 DB0 (hiz), 60 NC "No connection.", 61 NC "No connection.", 62 BUSY (out) "Status output. This pin is held high when device is converting.", 64 NC "No connection."
part B pins: 5 VA+ (power) "Analog power supply.", 6 AGND (power) "Analog ground.", 7 VA+ (power) "Analog power supply.", 12 AGND (power) "Analog ground.", 13 VA+ (power) "Analog power supply.", 22 VEE (power) "Negative supply for OPA (OP1, OP2)", 23 VCC (power) "Positive supply for OPA (OP1, OP2, BUF-REF)", 24 VCC (power) "Positive supply for OPA (OP1, OP2, BUF-REF)", 26 AGND (power) "Analog ground.", 38 VA+ (power) "Analog power supply.", 39 AGND (power) "Analog ground.", 40 VA+ (power) "Analog power supply.", 41 AGND (power) "Analog ground.", 50 VBD+ (power) "Digital power supply for ADC bus.", 51 BGND (power) "Digital ground for ADC bus interface digital supply.", 63 VBD+ (power) "Digital power supply for ADC bus.", 65 EP

## ADS8254IBRGCT
designator U?
16-Bit, 4 Channel Differential Complete Acquisition Solution (ADC, REF, and Input Buffer), -40 to 85 degC, 64-pin QFN (RGC64), Green (RoHS & no Sb/Br); Manufacturer: Texas Instruments; PartNumber: ADS8254IBRGCT; # Input Channels: 4; Analog Voltage AV/DD(Max)(V): 5.25; Analog Voltage AV/DD(Min)(V): 4.75; Architecture: SAR; Digital Supply(Min)(V): 2.7; INL(Max)(+/-LSB): 0.75; Interface: Parallel CMOS; Resolution(Bits): 16; Sample Rate (max)(SPS): 1M; SFDR(dB): 120; SINAD(dB): 95.2; SNR(dB): 95.4; SubFamily: Precision ADC (<=10MSPS); DatasheetVersion: SLAS643; PackageVersion: 4204106/F, 11/2011; PackageReference: RGC64-7250X7250TP; PackageDescription: 64-Pin Plastic Quad Flatpack No-Lead, Body 9 x 9 mm, Pitch 0.5 mm; Supplier 1: Digi-Key; Supplier Part Number 1: ADS807E/1KG4-ND; Supplier 2: Mouser; Supplier Part Number 2: 595-ADS807E/1KG4; Digital Supply(Max)(V): 5.25; Eco-Plan: Green (RoHS & no Sb/Br); Mounting Technology: Surface Mount; ComponentLink1Description: Manufacturer URL; ComponentLink1URL: http://www.ti.com/; ComponentLink2Description: Datasheet; ComponentLink2URL: http://www.ti.com/general/docs/lit/getliterature.tsp?genericPartNumber=ADS8254&fileType=pdf; ComponentLink3Description: Package Specification; ComponentLink3URL: http://www.ti.com/litv/pdf/mpqf125e
footprint TI-RGC64-7250X7250TP_V (QFN, 64-Leads, Body 9x9mm, Pitch 0.5mm, Thermal Pad 7.25x7.25mm, TI Recommended)
part A pins: 1 BYTE (in) "Byte Select Input. Used for 8-bit bus reading. Refer to ADC DATA BUS description above.", 2 ~{CONVST} (in) "Convert start. This input is active low and can act independent of the C\S\ input.", 3 ~{RD} (in) "Synchronization pulse for the parallel output.", 4 ~{CS} (in) "Chip select.", 8 REFM (power) "Reference ground.", 9 REFM (power) "Reference ground.", 10 REFIN (in) "Reference Input. Add 0.1-uF decoupling capacitor between REFIN and REFM.", 11 REFOUT (out) "Reference Output. Add 1-uF capacitor between the REFOUT pin and REFM pin when internal reference is used.", 14 VCMO (out) "This pin outputs REFIN/2 and can be used to set common-mode voltage of differential analog inputs.", 15 BUF-REF (out) "Buffered reference output. Useful to level shift bipolar signals using external resistors.", 16 NC "No connection.", 17 CH0P (in) "Non-inverting analog input for differential multiplexer channel number 0. Device performance is optimized for 50-ohm source impedance at this input.", 18 CH0M (in) "Inverting analog input for differential multiplexer channel number 0. Device performance is optimized for 50-ohm source impedance at this input.", 19 CH1P (in) "Non-inverting analog input for differential multiplexer channel number 1. Device performance is optimized for 50-ohm source impedance at this input.", 20 CH1M (in) "Inverting analog input for differential multiplexer channel number 1. Device performance is optimized for 50-ohm source impedance at this input.", 21 PD-RBUF (in) "High on this pin powers down the reference buffer (BUF-REF).", 25 INP (in) "ADC Non inverting input., connect 1-nF capacitor across INP and INM", 27 INM (in) "ADC Inverting input, connect 1-nF capacitor across INP and INM", 28 NC "No connection.", 29 CH2P (in) "Non-inverting analog input for differential multiplexer channel number 2. Device performance is optimized for 50-ohm source impedance at this input.", 30 CH2M (in) "Inverting analog input for differential multiplexer channel number 2. Device performance is optimized for 50-ohm source impedance at this input.", 31 CH3P (in) "Non-inverting analog input for differential multiplexer channel number 3. Device performance is optimized for 50 ohm source impedance at this input.", 32 CH3M (in) "Inverting analog input for differential multiplexer channel number 3. Device performance is optimized for 50-ohm source impedance at this input.", 33 AUTO (in) "High level on this pin selects auto mode for multiplexer scanning. Low level selects manual mode of multiplexer scanning", 34 C3 (in) "In auto mode (AUTO = 1) multiplexer channel selection is reset to CH0 on rising edge of MXCLK while C3 = 1. The pin is do not care in manual mode.", 35 C2 (in) "Acts as multiplexer address bit when AUTO = 0 (manual mode). In auto mode (AUTO = 1) C2 and C1 select the last multiplexer channel (channel count) in the auto scan sequence.", 36 C1 (in) "Acts as multiplexer address LSB when AUTO = 0 (manual mode). In auto mode (AUTO = 1) C2 and C1 select the last multiplexer channel (channel count) in the auto scan sequence.", 37 MXCLK (in) "Multiplexer channel is selected on rising edge of MXCLK irrespective of whether it is auto or manual mode. Device BUSY output can be connected to MXCLK so that device selects next channel at the end of every sample.", 42 DB15 (hiz), 43 DB14 (hiz), 44 DB13 (hiz), 45 DB12 (hiz), 46 DB11 (hiz), 47 DB10 (hiz), 48 DB9 (hiz), 49 DB8 (hiz), 52 DB7 (hiz), 53 DB6 (hiz), 54 DB5 (hiz), 55 DB4 (hiz), 56 DB3 (hiz), 57 DB2 (hiz), 58 DB1 (hiz), 59 DB0 (hiz), 60 NC "No connection.", 61 NC "No connection.", 62 BUSY (out) "Status output. This pin is held high when device is converting.", 64 NC "No connection."
part B pins: 5 VA+ (power) "Analog power supply.", 6 AGND (power) "Analog ground.", 7 VA+ (power) "Analog power supply.", 12 AGND (power) "Analog ground.", 13 VA+ (power) "Analog power supply.", 22 VEE (power) "Negative supply for OPA (OP1, OP2)", 23 VCC (power) "Positive supply for OPA (OP1, OP2, BUF-REF)", 24 VCC (power) "Positive supply for OPA (OP1, OP2, BUF-REF)", 26 AGND (power) "Analog ground.", 38 VA+ (power) "Analog power supply.", 39 AGND (power) "Analog ground.", 40 VA+ (power) "Analog power supply.", 41 AGND (power) "Analog ground.", 50 VBD+ (power) "Digital power supply for ADC bus.", 51 BGND (power) "Digital ground for ADC bus interface digital supply.", 63 VBD+ (power) "Digital power supply for ADC bus.", 65 EP

## ADS8254IRGCR
designator U?
16-Bit, 4 Channel Differential Complete Acquisition Solution (ADC, REF, and Input Buffer), -40 to 85 degC, 64-pin QFN (RGC64), Green (RoHS & no Sb/Br); Manufacturer: Texas Instruments; PartNumber: ADS8254IRGCR; # Input Channels: 4; Analog Voltage AV/DD(Max)(V): 5.25; Analog Voltage AV/DD(Min)(V): 4.75; Architecture: SAR; Digital Supply(Min)(V): 2.7; INL(Max)(+/-LSB): 1.5; Interface: Parallel CMOS; Resolution(Bits): 16; Sample Rate (max)(SPS): 1M; SFDR(dB): 120; SINAD(dB): 95.2; SNR(dB): 95.4; SubFamily: Precision ADC (<=10MSPS); DatasheetVersion: SLAS643; PackageVersion: 4204106/F, 11/2011; PackageReference: RGC64-7250X7250TP; PackageDescription: 64-Pin Plastic Quad Flatpack No-Lead, Body 9 x 9 mm, Pitch 0.5 mm; Supplier 1: Digi-Key; Supplier Part Number 1: ADS807EG4-ND; Supplier 2: Farnell; Supplier Part Number 2: 1214356; Supplier 3: Mouser; Supplier Part Number 3: 595-ADS807EG4; Digital Supply(Max)(V): 5.25; Eco-Plan: Green (RoHS & no Sb/Br); Mounting Technology: Surface Mount; ComponentLink1Description: Manufacturer URL; ComponentLink1URL: http://www.ti.com/; ComponentLink2Description: Datasheet; ComponentLink2URL: http://www.ti.com/general/docs/lit/getliterature.tsp?genericPartNumber=ADS8254&fileType=pdf; ComponentLink3Description: Package Specification; ComponentLink3URL: http://www.ti.com/litv/pdf/mpqf125e
footprint TI-RGC64-7250X7250TP_V (QFN, 64-Leads, Body 9x9mm, Pitch 0.5mm, Thermal Pad 7.25x7.25mm, TI Recommended)
part A pins: 1 BYTE (in) "Byte Select Input. Used for 8-bit bus reading. Refer to ADC DATA BUS description above.", 2 ~{CONVST} (in) "Convert start. This input is active low and can act independent of the C\S\ input.", 3 ~{RD} (in) "Synchronization pulse for the parallel output.", 4 ~{CS} (in) "Chip select.", 8 REFM (power) "Reference ground.", 9 REFM (power) "Reference ground.", 10 REFIN (in) "Reference Input. Add 0.1-uF decoupling capacitor between REFIN and REFM.", 11 REFOUT (out) "Reference Output. Add 1-uF capacitor between the REFOUT pin and REFM pin when internal reference is used.", 14 VCMO (out) "This pin outputs REFIN/2 and can be used to set common-mode voltage of differential analog inputs.", 15 BUF-REF (out) "Buffered reference output. Useful to level shift bipolar signals using external resistors.", 16 NC "No connection.", 17 CH0P (in) "Non-inverting analog input for differential multiplexer channel number 0. Device performance is optimized for 50-ohm source impedance at this input.", 18 CH0M (in) "Inverting analog input for differential multiplexer channel number 0. Device performance is optimized for 50-ohm source impedance at this input.", 19 CH1P (in) "Non-inverting analog input for differential multiplexer channel number 1. Device performance is optimized for 50-ohm source impedance at this input.", 20 CH1M (in) "Inverting analog input for differential multiplexer channel number 1. Device performance is optimized for 50-ohm source impedance at this input.", 21 PD-RBUF (in) "High on this pin powers down the reference buffer (BUF-REF).", 25 INP (in) "ADC Non inverting input., connect 1-nF capacitor across INP and INM", 27 INM (in) "ADC Inverting input, connect 1-nF capacitor across INP and INM", 28 NC "No connection.", 29 CH2P (in) "Non-inverting analog input for differential multiplexer channel number 2. Device performance is optimized for 50-ohm source impedance at this input.", 30 CH2M (in) "Inverting analog input for differential multiplexer channel number 2. Device performance is optimized for 50-ohm source impedance at this input.", 31 CH3P (in) "Non-inverting analog input for differential multiplexer channel number 3. Device performance is optimized for 50 ohm source impedance at this input.", 32 CH3M (in) "Inverting analog input for differential multiplexer channel number 3. Device performance is optimized for 50-ohm source impedance at this input.", 33 AUTO (in) "High level on this pin selects auto mode for multiplexer scanning. Low level selects manual mode of multiplexer scanning", 34 C3 (in) "In auto mode (AUTO = 1) multiplexer channel selection is reset to CH0 on rising edge of MXCLK while C3 = 1. The pin is do not care in manual mode.", 35 C2 (in) "Acts as multiplexer address bit when AUTO = 0 (manual mode). In auto mode (AUTO = 1) C2 and C1 select the last multiplexer channel (channel count) in the auto scan sequence.", 36 C1 (in) "Acts as multiplexer address LSB when AUTO = 0 (manual mode). In auto mode (AUTO = 1) C2 and C1 select the last multiplexer channel (channel count) in the auto scan sequence.", 37 MXCLK (in) "Multiplexer channel is selected on rising edge of MXCLK irrespective of whether it is auto or manual mode. Device BUSY output can be connected to MXCLK so that device selects next channel at the end of every sample.", 42 DB15 (hiz), 43 DB14 (hiz), 44 DB13 (hiz), 45 DB12 (hiz), 46 DB11 (hiz), 47 DB10 (hiz), 48 DB9 (hiz), 49 DB8 (hiz), 52 DB7 (hiz), 53 DB6 (hiz), 54 DB5 (hiz), 55 DB4 (hiz), 56 DB3 (hiz), 57 DB2 (hiz), 58 DB1 (hiz), 59 DB0 (hiz), 60 NC "No connection.", 61 NC "No connection.", 62 BUSY (out) "Status output. This pin is held high when device is converting.", 64 NC "No connection."
part B pins: 5 VA+ (power) "Analog power supply.", 6 AGND (power) "Analog ground.", 7 VA+ (power) "Analog power supply.", 12 AGND (power) "Analog ground.", 13 VA+ (power) "Analog power supply.", 22 VEE (power) "Negative supply for OPA (OP1, OP2)", 23 VCC (power) "Positive supply for OPA (OP1, OP2, BUF-REF)", 24 VCC (power) "Positive supply for OPA (OP1, OP2, BUF-REF)", 26 AGND (power) "Analog ground.", 38 VA+ (power) "Analog power supply.", 39 AGND (power) "Analog ground.", 40 VA+ (power) "Analog power supply.", 41 AGND (power) "Analog ground.", 50 VBD+ (power) "Digital power supply for ADC bus.", 51 BGND (power) "Digital ground for ADC bus interface digital supply.", 63 VBD+ (power) "Digital power supply for ADC bus.", 65 EP